# Altium footprint library TRANS_IAUC28N08S5L230ATMA1.PcbLib: 1 footprints
Each footprint in its own frame and in the unit in brackets; x right, y up, seen from the top. Pads: shape width x height; smd on the part's side, far side on the other; paste and mask are expansions set on the pad; w line width, h text height; cw(c..) or ccw(c..) is an arc to the next point about the centre after c.
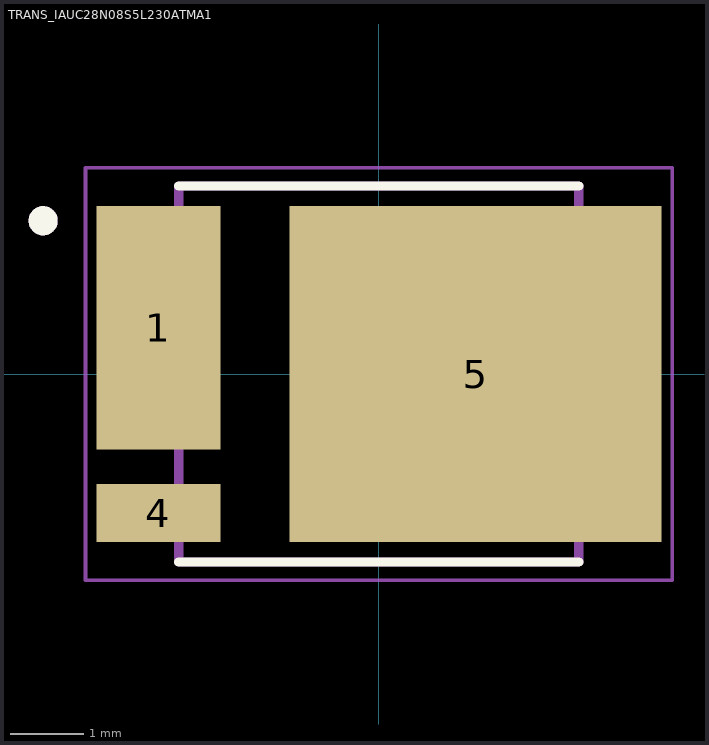
[diagram p0: the footprint, top view; thin cyan lines are the x and y axes]

## TRANS_IAUC28N08S5L230ATMA1 [mm]
pads (3):
  rect 1.7x3.34 smd paste-3 mask+0: 1(-3.02,0.635)
  rect 1.7x0.8 smd paste-2 mask+0: 4(-3.02,-1.905)
  rect 5.1x4.61 smd paste-4 mask+0: 5(1.325,0)
Top Overlay:
  circle w0.2: c-4.6,2.1 r0.1
  lines w0.127: -2.74,-2.575 2.74,-2.575 ; -2.74,2.575 2.74,2.575
Top Paste:
  region: -2.97,1.655 -3.72,1.655 -3.72,2.155 -2.97,2.155
  region: -2.97,0.385 -3.72,0.385 -3.72,0.885 -2.97,0.885
  region: -2.97,-0.885 -3.72,-0.885 -3.72,-0.385 -2.97,-0.385
  region: -2.32,1.305 -2.77,1.305 -2.77,2.155 -2.32,2.155
  region: -2.32,-0.895 -2.77,-0.895 -2.77,-0.045 -2.32,-0.045
  region: -2.32,0.205 -2.77,0.205 -2.77,1.055 -2.32,1.055
  region: 3.72,1.655 2.52,1.655 2.52,2.155 3.72,2.155
  region: 3.72,0.385 2.52,0.385 2.52,0.885 3.72,0.885
  region: 3.72,-0.885 2.52,-0.885 2.52,-0.385 3.72,-0.385
  region: 3.72,-2.155 2.52,-2.155 2.52,-1.655 3.72,-1.655
  region: -2.52,-2.155 -3.72,-2.155 -3.72,-1.655 -2.52,-1.655
  region: 0.54,-1.6 -0.96,-1.6 -0.96,-0.1 0.54,-0.1
  region: 2.24,-1.6 0.74,-1.6 0.74,-0.1 2.24,-0.1
  region: 0.54,0.1 -0.96,0.1 -0.96,1.6 0.54,1.6
  region: 2.24,0.1 0.74,0.1 0.74,1.6 2.24,1.6
Top Solder:
  region: 3.77,1.605 2.42,1.605 2.42,0.935 3.77,0.935 3.77,0.335 2.42,0.335 2.42,-0.335 3.77,-0.335 3.77,-0.935 2.42,-0.935 2.42,-1.605 3.77,-1.605 3.77,-2.205 -1.125,-2.205 -1.125,2.205 3.77,2.205
  region: -2.27,-0.935 -3.77,-0.935 -3.77,-0.335 -2.835,-0.335 -2.835,0.335 -3.77,0.335 -3.77,0.935 -2.835,0.935 -2.835,1.605 -3.77,1.605 -3.77,2.205 -2.27,2.205
  region: -2.27,-2.205 -3.77,-2.205 -3.77,-1.605 -2.27,-1.605
Mechanical 13:
  circle w0.2: c-4.6,2.1 r0.1
  lines w0.127: -2.74,-2.575 2.74,-2.575 2.74,2.575 -2.74,2.575 -2.74,-2.575
Mechanical 15:
  lines w0.05: -4.02,-2.825 4.02,-2.825 4.02,2.825 -4.02,2.825 -4.02,-2.825